# Altium integrated library Linear Technology Power Management LDO Linear Regulators.IntLib: 2339 symbols (part 97 of 131)
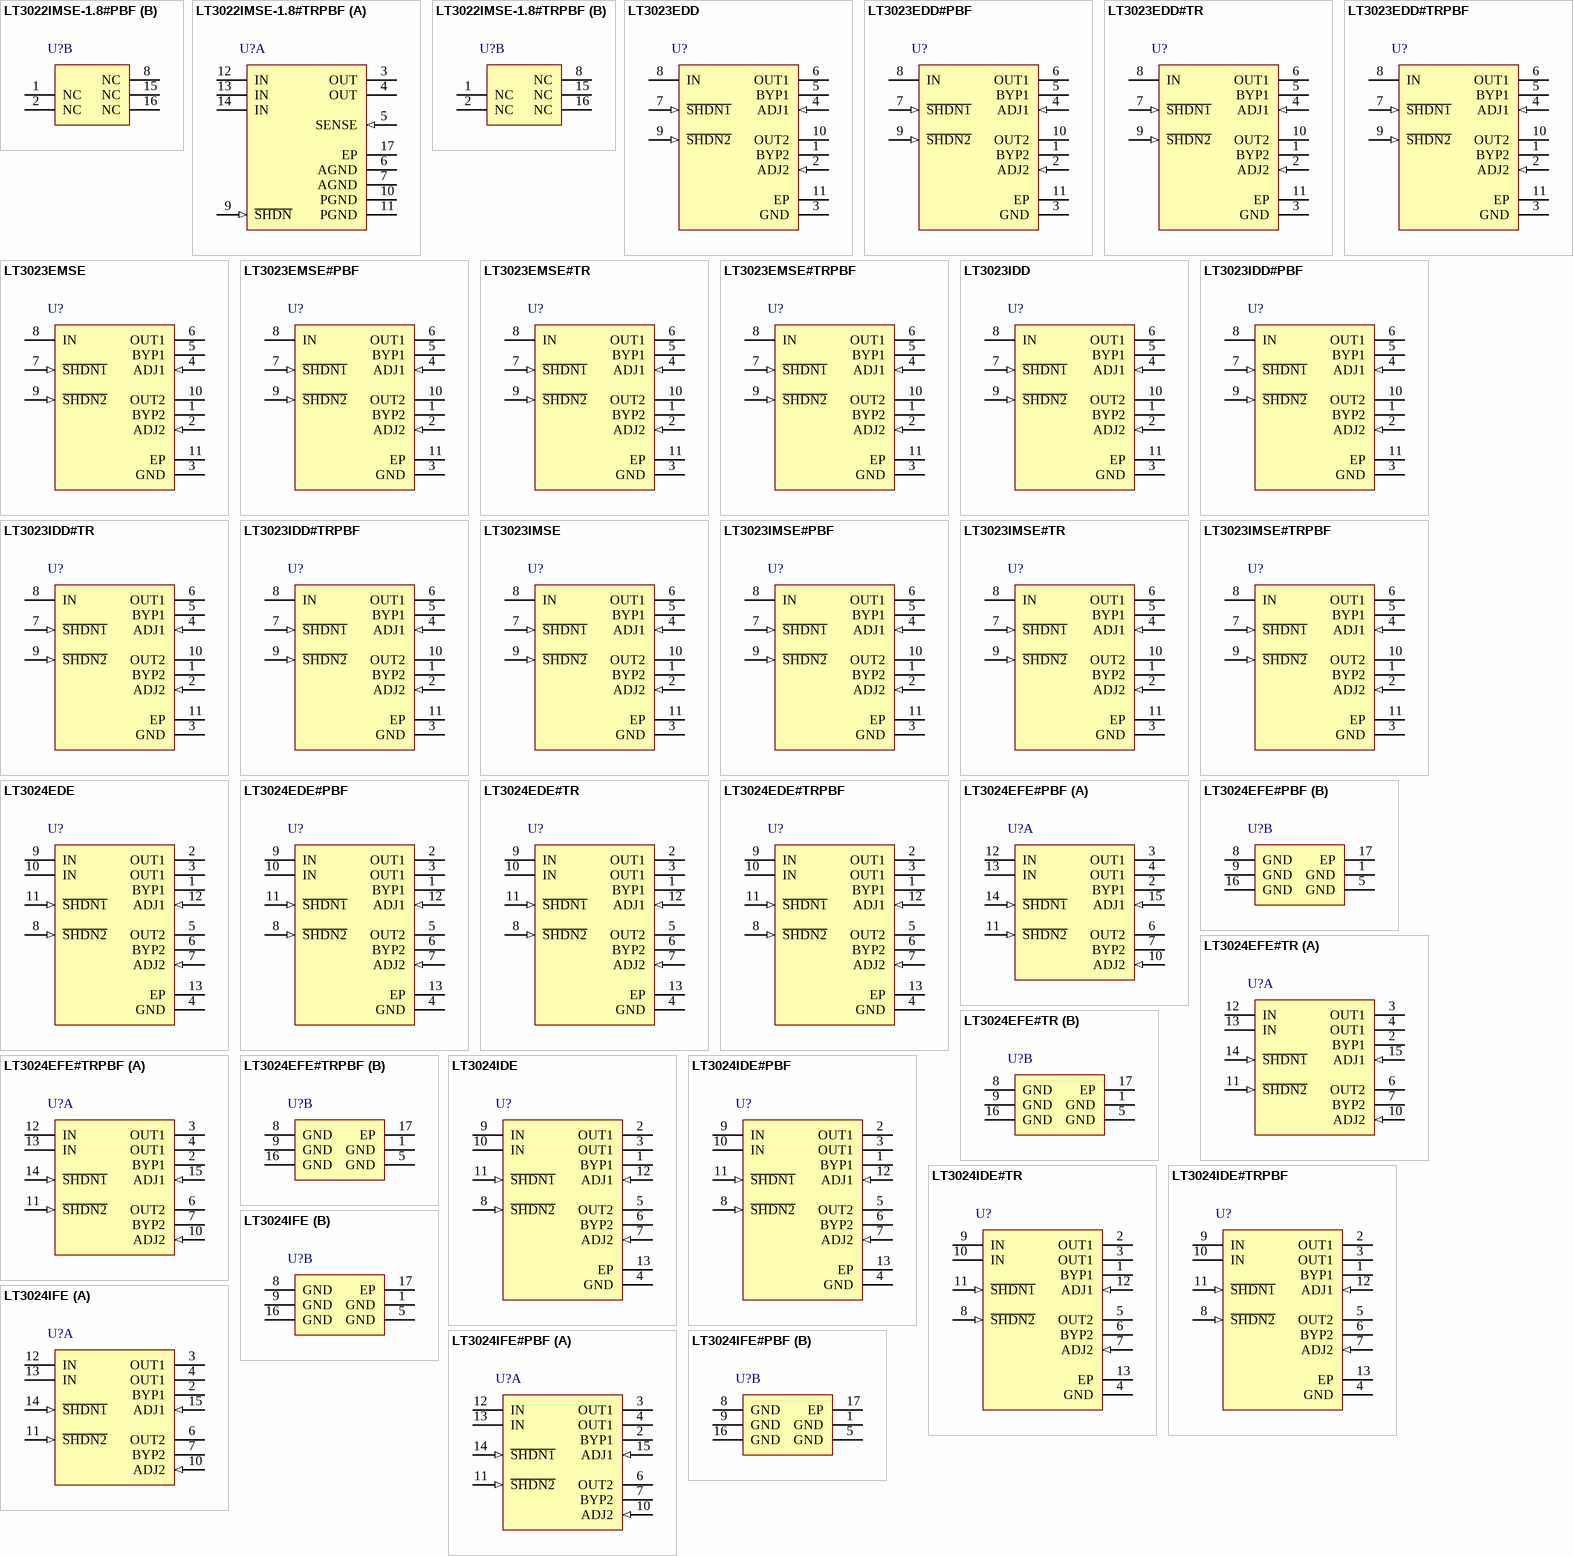
[diagram p165: symbols LT3022IMSE-1.8#PBF to LT3024IFE#PBF]

## LT3024IDE
designator U?
Dual 100 / 500 mA Low Dropout, Low Noise, Micropower Regulator, 1.8 to 20 V Vin, Adjustable Vout, 12-pin SON (DE-UE-12), -40 to 125 degC; Manufacturer: Linear Technology; PartNumber: LT3024IDE; Discrete Pass Element: no; Dropout Voltage(V): 0.3; Iout(mA): 500; Isupply(mA): 0.03; Noise(uV): 20; Number of Outputs: 2; Output Voltage: Adj; PSRR(dB): 65; Shutdown Current(uA): 0.01; Vin Min(V): 1.8; Vout Min(V): 1.22; DatasheetVersion: Rev. A; PackageVersion: Rev. D, 06/2010; PackageReference: DE-UE-12; PackageDescription: 12-Pin Plastic DFN, Body 4 x 3 mm, Pitch 0.5 mm; Supplier 1: Newark; Supplier Part Number 1: 79M3657; RoHS: FALSE; Vin Max(V): 20; Vout Max(V): 20; Mounting Technology: Surface Mount; Code_JEDEC: MO-229; ComponentLink1Description: Manufacturer URL; ComponentLink1URL: http://www.linear.com/; ComponentLink2Description: Datasheet; ComponentLink2URL: http://cds.linear.com/docs/en/datasheet/3024fa.pdf; ComponentLink3Description: Package Specification; ComponentLink3URL: http://cds.linear.com/docs/en/packaging/DFN_12_05-08-1695.pdf
footprint LT-DE-UE-12_V (SON, 12-Leads, Body 4x3mm, Pitch 0.5mm, Thermal Pad 3.3x1.7mm)
pins: 1 BYP1 "Bypass. The BYP1/ BYP2 pins are used to bypass the reference of the LT3024 regulator to achieve low noise performance from the regulator. The BYP1/BYP2 pins are clamped internally to +/-0.6V (one VBE) from ground. A small (See Datasheet)", 2 OUT1 (power) "Output. The outputs supply power to the loads. A minimum output capacitor of 1uF is required to prevent oscillations on Output 2; Output 1 requires a minimum of 3.3uF. Larger output capacitors will be required for (See Datasheet)", 3 OUT1 (power) "Output. The outputs supply power to the loads. A minimum output capacitor of 1uF is required to prevent oscillations on Output 2; Output 1 requires a minimum of 3.3uF. Larger output capacitors will be required for (See Datasheet)", 4 GND (power) "Ground. The Exposed Pad must be soldered to PCB ground for optimum thermal performance.", 5 OUT2 (power) "Output. The outputs supply power to the loads. A minimum output capacitor of 1uF is required to prevent oscillations on Output 2; Output 1 requires a minimum of 3.3uF. Larger output capacitors will be required for (See Datasheet)", 6 BYP2 "Bypass. The BYP1/ BYP2 pins are used to bypass the reference of the LT3024 regulator to achieve low noise performance from the regulator. The BYP1/BYP2 pins are clamped internally to +/-0.6V (one VBE) from ground. A small (See Datasheet)", 7 ADJ2 (in) "Adjust Pin. These are the input to the error amplifiers. These pins are internally clamped to +/-7V. They have a bias current of 30nA which flows into the pin (see curve of ADJ1/ADJ2 Pin Bias Current vs Temperature in the (See Datasheet)", 8 ~{SHDN2} (in) "Shutdown. The S\H\D\N\1\/S\H\D\N\2\ pins are used to put the corresponding output of the LT3024 regulator into a low power shutdown state. The output will be off when the pin is pulled low. The S\H\D\N\1\/S\H\D\N\2\ pins can (See Datasheet)", 9 IN (power) "Input. Power is supplied to the device through the IN pin. A bypass capacitor is required on this pin if the device is more than six inches away from the main input fi lter capacitor. In general, the output impedance of a (See Datasheet)", 10 IN (power) "Input. Power is supplied to the device through the IN pin. A bypass capacitor is required on this pin if the device is more than six inches away from the main input fi lter capacitor. In general, the output impedance of a (See Datasheet)", 11 ~{SHDN1} (in) "Shutdown. The S\H\D\N\1\/S\H\D\N\2\ pins are used to put the corresponding output of the LT3024 regulator into a low power shutdown state. The output will be off when the pin is pulled low. The S\H\D\N\1\/S\H\D\N\2\ pins can (See Datasheet)", 12 ADJ1 (in) "Adjust Pin. These are the input to the error amplifiers. These pins are internally clamped to +/-7V. They have a bias current of 30nA which flows into the pin (see curve of ADJ1/ADJ2 Pin Bias Current vs Temperature in the (See Datasheet)", 13 EP (power) "The Exposed Pad must be soldered to PCB ground for optimum thermal performance."

## LT3024IDE#PBF
designator U?
Dual 100 / 500 mA Low Dropout, Low Noise, Micropower Regulator, 1.8 to 20 V Vin, Adjustable Vout, 12-pin SON (DE-UE-12), -40 to 125 degC, Pb-Free; Manufacturer: Linear Technology; PartNumber: LT3024IDE#PBF; Discrete Pass Element: no; Dropout Voltage(V): 0.3; Iout(mA): 500; Isupply(mA): 0.03; Noise(uV): 20; Number of Outputs: 2; Output Voltage: Adj; PSRR(dB): 65; Shutdown Current(uA): 0.01; Vin Min(V): 1.8; Vout Min(V): 1.22; DatasheetVersion: Rev. A; PackageVersion: Rev. D, 06/2010; PackageReference: DE-UE-12; PackageDescription: 12-Pin Plastic DFN, Body 4 x 3 mm, Pitch 0.5 mm; Supplier 1: Digi-Key; Supplier Part Number 1: LT3024IDE#PBF-ND; Supplier 2: Farnell; Supplier Part Number 2: 2295257; Supplier 3: Newark; Supplier Part Number 3: 79M3658; RoHS: TRUE; Vin Max(V): 20; Vout Max(V): 20; Mounting Technology: Surface Mount; Code_JEDEC: MO-229; ComponentLink1Description: Manufacturer URL; ComponentLink1URL: http://www.linear.com/; ComponentLink2Description: Datasheet; ComponentLink2URL: http://cds.linear.com/docs/en/datasheet/3024fa.pdf; ComponentLink3Description: Package Specification; ComponentLink3URL: http://cds.linear.com/docs/en/packaging/DFN_12_05-08-1695.pdf
footprint LT-DE-UE-12_V (SON, 12-Leads, Body 4x3mm, Pitch 0.5mm, Thermal Pad 3.3x1.7mm)
pins: 1 BYP1 "Bypass. The BYP1/ BYP2 pins are used to bypass the reference of the LT3024 regulator to achieve low noise performance from the regulator. The BYP1/BYP2 pins are clamped internally to +/-0.6V (one VBE) from ground. A small (See Datasheet)", 2 OUT1 (power) "Output. The outputs supply power to the loads. A minimum output capacitor of 1uF is required to prevent oscillations on Output 2; Output 1 requires a minimum of 3.3uF. Larger output capacitors will be required for (See Datasheet)", 3 OUT1 (power) "Output. The outputs supply power to the loads. A minimum output capacitor of 1uF is required to prevent oscillations on Output 2; Output 1 requires a minimum of 3.3uF. Larger output capacitors will be required for (See Datasheet)", 4 GND (power) "Ground. The Exposed Pad must be soldered to PCB ground for optimum thermal performance.", 5 OUT2 (power) "Output. The outputs supply power to the loads. A minimum output capacitor of 1uF is required to prevent oscillations on Output 2; Output 1 requires a minimum of 3.3uF. Larger output capacitors will be required for (See Datasheet)", 6 BYP2 "Bypass. The BYP1/ BYP2 pins are used to bypass the reference of the LT3024 regulator to achieve low noise performance from the regulator. The BYP1/BYP2 pins are clamped internally to +/-0.6V (one VBE) from ground. A small (See Datasheet)", 7 ADJ2 (in) "Adjust Pin. These are the input to the error amplifiers. These pins are internally clamped to +/-7V. They have a bias current of 30nA which flows into the pin (see curve of ADJ1/ADJ2 Pin Bias Current vs Temperature in the (See Datasheet)", 8 ~{SHDN2} (in) "Shutdown. The S\H\D\N\1\/S\H\D\N\2\ pins are used to put the corresponding output of the LT3024 regulator into a low power shutdown state. The output will be off when the pin is pulled low. The S\H\D\N\1\/S\H\D\N\2\ pins can (See Datasheet)", 9 IN (power) "Input. Power is supplied to the device through the IN pin. A bypass capacitor is required on this pin if the device is more than six inches away from the main input fi lter capacitor. In general, the output impedance of a (See Datasheet)", 10 IN (power) "Input. Power is supplied to the device through the IN pin. A bypass capacitor is required on this pin if the device is more than six inches away from the main input fi lter capacitor. In general, the output impedance of a (See Datasheet)", 11 ~{SHDN1} (in) "Shutdown. The S\H\D\N\1\/S\H\D\N\2\ pins are used to put the corresponding output of the LT3024 regulator into a low power shutdown state. The output will be off when the pin is pulled low. The S\H\D\N\1\/S\H\D\N\2\ pins can (See Datasheet)", 12 ADJ1 (in) "Adjust Pin. These are the input to the error amplifiers. These pins are internally clamped to +/-7V. They have a bias current of 30nA which flows into the pin (see curve of ADJ1/ADJ2 Pin Bias Current vs Temperature in the (See Datasheet)", 13 EP (power) "The Exposed Pad must be soldered to PCB ground for optimum thermal performance."

## LT3024IDE#TR
designator U?
Dual 100 / 500 mA Low Dropout, Low Noise, Micropower Regulator, 1.8 to 20 V Vin, Adjustable Vout, 12-pin SON (DE-UE-12), -40 to 125 degC, Tape and Reel; Manufacturer: Linear Technology; PartNumber: LT3024IDE#TR; Discrete Pass Element: no; Dropout Voltage(V): 0.3; Iout(mA): 500; Isupply(mA): 0.03; Noise(uV): 20; Number of Outputs: 2; Output Voltage: Adj; PSRR(dB): 65; Shutdown Current(uA): 0.01; Vin Min(V): 1.8; Vout Min(V): 1.22; DatasheetVersion: Rev. A; PackageVersion: Rev. D, 06/2010; PackageReference: DE-UE-12; PackageDescription: 12-Pin Plastic DFN, Body 4 x 3 mm, Pitch 0.5 mm; Packing: Tape and Reel; RoHS: FALSE; Vin Max(V): 20; Vout Max(V): 20; Mounting Technology: Surface Mount; Code_JEDEC: MO-229; ComponentLink1Description: Manufacturer URL; ComponentLink1URL: http://www.linear.com/; ComponentLink2Description: Datasheet; ComponentLink2URL: http://cds.linear.com/docs/en/datasheet/3024fa.pdf; ComponentLink3Description: Package Specification; ComponentLink3URL: http://cds.linear.com/docs/en/packaging/DFN_12_05-08-1695.pdf
footprint LT-DE-UE-12_V (SON, 12-Leads, Body 4x3mm, Pitch 0.5mm, Thermal Pad 3.3x1.7mm)
pins: 1 BYP1 "Bypass. The BYP1/ BYP2 pins are used to bypass the reference of the LT3024 regulator to achieve low noise performance from the regulator. The BYP1/BYP2 pins are clamped internally to +/-0.6V (one VBE) from ground. A small (See Datasheet)", 2 OUT1 (power) "Output. The outputs supply power to the loads. A minimum output capacitor of 1uF is required to prevent oscillations on Output 2; Output 1 requires a minimum of 3.3uF. Larger output capacitors will be required for (See Datasheet)", 3 OUT1 (power) "Output. The outputs supply power to the loads. A minimum output capacitor of 1uF is required to prevent oscillations on Output 2; Output 1 requires a minimum of 3.3uF. Larger output capacitors will be required for (See Datasheet)", 4 GND (power) "Ground. The Exposed Pad must be soldered to PCB ground for optimum thermal performance.", 5 OUT2 (power) "Output. The outputs supply power to the loads. A minimum output capacitor of 1uF is required to prevent oscillations on Output 2; Output 1 requires a minimum of 3.3uF. Larger output capacitors will be required for (See Datasheet)", 6 BYP2 "Bypass. The BYP1/ BYP2 pins are used to bypass the reference of the LT3024 regulator to achieve low noise performance from the regulator. The BYP1/BYP2 pins are clamped internally to +/-0.6V (one VBE) from ground. A small (See Datasheet)", 7 ADJ2 (in) "Adjust Pin. These are the input to the error amplifiers. These pins are internally clamped to +/-7V. They have a bias current of 30nA which flows into the pin (see curve of ADJ1/ADJ2 Pin Bias Current vs Temperature in the (See Datasheet)", 8 ~{SHDN2} (in) "Shutdown. The S\H\D\N\1\/S\H\D\N\2\ pins are used to put the corresponding output of the LT3024 regulator into a low power shutdown state. The output will be off when the pin is pulled low. The S\H\D\N\1\/S\H\D\N\2\ pins can (See Datasheet)", 9 IN (power) "Input. Power is supplied to the device through the IN pin. A bypass capacitor is required on this pin if the device is more than six inches away from the main input fi lter capacitor. In general, the output impedance of a (See Datasheet)", 10 IN (power) "Input. Power is supplied to the device through the IN pin. A bypass capacitor is required on this pin if the device is more than six inches away from the main input fi lter capacitor. In general, the output impedance of a (See Datasheet)", 11 ~{SHDN1} (in) "Shutdown. The S\H\D\N\1\/S\H\D\N\2\ pins are used to put the corresponding output of the LT3024 regulator into a low power shutdown state. The output will be off when the pin is pulled low. The S\H\D\N\1\/S\H\D\N\2\ pins can (See Datasheet)", 12 ADJ1 (in) "Adjust Pin. These are the input to the error amplifiers. These pins are internally clamped to +/-7V. They have a bias current of 30nA which flows into the pin (see curve of ADJ1/ADJ2 Pin Bias Current vs Temperature in the (See Datasheet)", 13 EP (power) "The Exposed Pad must be soldered to PCB ground for optimum thermal performance."

## LT3024IDE#TRPBF
designator U?
Dual 100 / 500 mA Low Dropout, Low Noise, Micropower Regulator, 1.8 to 20 V Vin, Adjustable Vout, 12-pin SON (DE-UE-12), -40 to 125 degC, Pb-Free, Tape and Reel; Manufacturer: Linear Technology; PartNumber: LT3024IDE#TRPBF; Discrete Pass Element: no; Dropout Voltage(V): 0.3; Iout(mA): 500; Isupply(mA): 0.03; Noise(uV): 20; Number of Outputs: 2; Output Voltage: Adj; PSRR(dB): 65; Shutdown Current(uA): 0.01; Vin Min(V): 1.8; Vout Min(V): 1.22; DatasheetVersion: Rev. A; PackageVersion: Rev. D, 06/2010; PackageReference: DE-UE-12; PackageDescription: 12-Pin Plastic DFN, Body 4 x 3 mm, Pitch 0.5 mm; Supplier 1: Digi-Key; Supplier Part Number 1: LT3024IDE#TRPBF-ND; Supplier 2: Newark; Supplier Part Number 2: 79M3660; Packing: Tape and Reel; RoHS: TRUE; Vin Max(V): 20; Vout Max(V): 20; Mounting Technology: Surface Mount; Code_JEDEC: MO-229; ComponentLink1Description: Manufacturer URL; ComponentLink1URL: http://www.linear.com/; ComponentLink2Description: Datasheet; ComponentLink2URL: http://cds.linear.com/docs/en/datasheet/3024fa.pdf; ComponentLink3Description: Package Specification; ComponentLink3URL: http://cds.linear.com/docs/en/packaging/DFN_12_05-08-1695.pdf
footprint LT-DE-UE-12_V (SON, 12-Leads, Body 4x3mm, Pitch 0.5mm, Thermal Pad 3.3x1.7mm)
pins: 1 BYP1 "Bypass. The BYP1/ BYP2 pins are used to bypass the reference of the LT3024 regulator to achieve low noise performance from the regulator. The BYP1/BYP2 pins are clamped internally to +/-0.6V (one VBE) from ground. A small (See Datasheet)", 2 OUT1 (power) "Output. The outputs supply power to the loads. A minimum output capacitor of 1uF is required to prevent oscillations on Output 2; Output 1 requires a minimum of 3.3uF. Larger output capacitors will be required for (See Datasheet)", 3 OUT1 (power) "Output. The outputs supply power to the loads. A minimum output capacitor of 1uF is required to prevent oscillations on Output 2; Output 1 requires a minimum of 3.3uF. Larger output capacitors will be required for (See Datasheet)", 4 GND (power) "Ground. The Exposed Pad must be soldered to PCB ground for optimum thermal performance.", 5 OUT2 (power) "Output. The outputs supply power to the loads. A minimum output capacitor of 1uF is required to prevent oscillations on Output 2; Output 1 requires a minimum of 3.3uF. Larger output capacitors will be required for (See Datasheet)", 6 BYP2 "Bypass. The BYP1/ BYP2 pins are used to bypass the reference of the LT3024 regulator to achieve low noise performance from the regulator. The BYP1/BYP2 pins are clamped internally to +/-0.6V (one VBE) from ground. A small (See Datasheet)", 7 ADJ2 (in) "Adjust Pin. These are the input to the error amplifiers. These pins are internally clamped to +/-7V. They have a bias current of 30nA which flows into the pin (see curve of ADJ1/ADJ2 Pin Bias Current vs Temperature in the (See Datasheet)", 8 ~{SHDN2} (in) "Shutdown. The S\H\D\N\1\/S\H\D\N\2\ pins are used to put the corresponding output of the LT3024 regulator into a low power shutdown state. The output will be off when the pin is pulled low. The S\H\D\N\1\/S\H\D\N\2\ pins can (See Datasheet)", 9 IN (power) "Input. Power is supplied to the device through the IN pin. A bypass capacitor is required on this pin if the device is more than six inches away from the main input fi lter capacitor. In general, the output impedance of a (See Datasheet)", 10 IN (power) "Input. Power is supplied to the device through the IN pin. A bypass capacitor is required on this pin if the device is more than six inches away from the main input fi lter capacitor. In general, the output impedance of a (See Datasheet)", 11 ~{SHDN1} (in) "Shutdown. The S\H\D\N\1\/S\H\D\N\2\ pins are used to put the corresponding output of the LT3024 regulator into a low power shutdown state. The output will be off when the pin is pulled low. The S\H\D\N\1\/S\H\D\N\2\ pins can (See Datasheet)", 12 ADJ1 (in) "Adjust Pin. These are the input to the error amplifiers. These pins are internally clamped to +/-7V. They have a bias current of 30nA which flows into the pin (see curve of ADJ1/ADJ2 Pin Bias Current vs Temperature in the (See Datasheet)", 13 EP (power) "The Exposed Pad must be soldered to PCB ground for optimum thermal performance."

## LT3024IFE
designator U?
Dual 100 / 500 mA Low Dropout, Low Noise, Micropower Regulator, 1.8 to 20 V Vin, Adjustable Vout, 16-pin SOP (FE-16-EPV-BB), -40 to 125 degC; Manufacturer: Linear Technology; PartNumber: LT3024IFE; Discrete Pass Element: no; Dropout Voltage(V): 0.3; Iout(mA): 500; Isupply(mA): 0.03; Noise(uV): 20; Number of Outputs: 2; Output Voltage: Adj; PSRR(dB): 65; Shutdown Current(uA): 0.01; Vin Min(V): 1.8; Vout Min(V): 1.22; DatasheetVersion: Rev. A; PackageVersion: Rev. J, 11/2012; PackageReference: FE-16; PackageDescription: 16-Pin Plastic TSSOP, Body 5 x 4.4 mm, Pitch 0.65 mm; RoHS: FALSE; Vin Max(V): 20; Vout Max(V): 20; Mounting Technology: Surface Mount; ComponentLink1Description: Manufacturer URL; ComponentLink1URL: http://www.linear.com/; ComponentLink2Description: Datasheet; ComponentLink2URL: http://cds.linear.com/docs/en/datasheet/3024fa.pdf; ComponentLink3Description: Package Specification; ComponentLink3URL: http://cds.linear.com/docs/en/packaging/05081663__J_FE16(BB).pdf
footprint LT-FE-16-EPV-BB_N (SOP, 16-Leads, Body 5.1x4.5mm, Pitch 0.65mm, Thermal Pad 3.58x2.94mm, IPC Medium Density)
footprint LT-FE-16-EPV-BB_L (SOP, 16-Leads, Body 5.1x4.5mm, Pitch 0.65mm, Thermal Pad 3.58x2.94mm, IPC High Density)
footprint LT-FE-16-EPV-BB_M (SOP, 16-Leads, Body 5.1x4.5mm, Pitch 0.65mm, Thermal Pad 3.58x2.94mm, IPC Low Density)
part A pins: 2 BYP1 "Bypass. The BYP1/ BYP2 pins are used to bypass the reference of the LT3024 regulator to achieve low noise performance from the regulator. The BYP1/BYP2 pins are clamped internally to +/-0.6V (one VBE) from ground. A small (See Datasheet)", 3 OUT1 (power) "Output. The outputs supply power to the loads. A minimum output capacitor of 1uF is required to prevent oscillations on Output 2; Output 1 requires a minimum of 3.3uF. Larger output capacitors will be required for (See Datasheet)", 4 OUT1 (power) "Output. The outputs supply power to the loads. A minimum output capacitor of 1uF is required to prevent oscillations on Output 2; Output 1 requires a minimum of 3.3uF. Larger output capacitors will be required for (See Datasheet)", 6 OUT2 (power) "Output. The outputs supply power to the loads. A minimum output capacitor of 1uF is required to prevent oscillations on Output 2; Output 1 requires a minimum of 3.3uF. Larger output capacitors will be required for (See Datasheet)", 7 BYP2 "Bypass. The BYP1/ BYP2 pins are used to bypass the reference of the LT3024 regulator to achieve low noise performance from the regulator. The BYP1/BYP2 pins are clamped internally to +/-0.6V (one VBE) from ground. A small (See Datasheet)", 10 ADJ2 (in) "Adjust Pin. These are the input to the error amplifi ers. These pins are internally clamped to +/-7V. They have a bias current of 30nA which fl ows into the pin (see curve of ADJ1/ADJ2 Pin Bias Current vs Temperature in the (See Datasheet)", 11 ~{SHDN2} (in) "Shutdown. The S\H\D\N\1\/S\H\D\N\2\ pins are used to put the corresponding output of the LT3024 regulator into a low power shutdown state. The output will be off when the pin is pulled low. The S\H\D\N\1\/S\H\D\N\2\ pins can (See Datasheet)", 12 IN (power) "Input. Power is supplied to the device through the IN pin. A bypass capacitor is required on this pin if the device is more than six inches away from the main input fi lter capacitor. In general, the output impedance of a (See Datasheet)", 13 IN (power) "Input. Power is supplied to the device through the IN pin. A bypass capacitor is required on this pin if the device is more than six inches away from the main input fi lter capacitor. In general, the output impedance of a (See Datasheet)", 14 ~{SHDN1} (in) "Shutdown. The S\H\D\N\1\/S\H\D\N\2\ pins are used to put the corresponding output of the LT3024 regulator into a low power shutdown state. The output will be off when the pin is pulled low. The S\H\D\N\1\/S\H\D\N\2\ pins can (See Datasheet)", 15 ADJ1 (in) "Adjust Pin. These are the input to the error amplifi ers. These pins are internally clamped to +/-7V. They have a bias current of 30nA which fl ows into the pin (see curve of ADJ1/ADJ2 Pin Bias Current vs Temperature in the (See Datasheet)"
part B pins: 1 GND (power) "Ground. The Exposed Pad must be soldered to PCB ground for optimum thermal performance.", 5 GND (power) "Ground. The Exposed Pad must be soldered to PCB ground for optimum thermal performance.", 8 GND (power) "Ground. The Exposed Pad must be soldered to PCB ground for optimum thermal performance.", 9 GND (power) "Ground. The Exposed Pad must be soldered to PCB ground for optimum thermal performance.", 16 GND (power) "Ground. The Exposed Pad must be soldered to PCB ground for optimum thermal performance.", 17 EP (power) "Ground. The Exposed Pad must be soldered to PCB ground for optimum thermal performance."

## LT3024IFE#PBF
designator U?
Dual 100 / 500 mA Low Dropout, Low Noise, Micropower Regulator, 1.8 to 20 V Vin, Adjustable Vout, 16-pin SOP (FE-16-EPV-BB), -40 to 125 degC, Pb-Free; Manufacturer: Linear Technology; PartNumber: LT3024IFE#PBF; Discrete Pass Element: no; Dropout Voltage(V): 0.3; Iout(mA): 500; Isupply(mA): 0.03; Noise(uV): 20; Number of Outputs: 2; Output Voltage: Adj; PSRR(dB): 65; Shutdown Current(uA): 0.01; Vin Min(V): 1.8; Vout Min(V): 1.22; DatasheetVersion: Rev. A; PackageVersion: Rev. J, 11/2012; PackageReference: FE-16; PackageDescription: 16-Pin Plastic TSSOP, Body 5 x 4.4 mm, Pitch 0.65 mm; Supplier 1: Digi-Key; Supplier Part Number 1: LT3024IFE#PBF-ND; RoHS: TRUE; Vin Max(V): 20; Vout Max(V): 20; Mounting Technology: Surface Mount; ComponentLink1Description: Manufacturer URL; ComponentLink1URL: http://www.linear.com/; ComponentLink2Description: Datasheet; ComponentLink2URL: http://cds.linear.com/docs/en/datasheet/3024fa.pdf; ComponentLink3Description: Package Specification; ComponentLink3URL: http://cds.linear.com/docs/en/packaging/05081663__J_FE16(BB).pdf
footprint LT-FE-16-EPV-BB_N (SOP, 16-Leads, Body 5.1x4.5mm, Pitch 0.65mm, Thermal Pad 3.58x2.94mm, IPC Medium Density)
footprint LT-FE-16-EPV-BB_L (SOP, 16-Leads, Body 5.1x4.5mm, Pitch 0.65mm, Thermal Pad 3.58x2.94mm, IPC High Density)
footprint LT-FE-16-EPV-BB_M (SOP, 16-Leads, Body 5.1x4.5mm, Pitch 0.65mm, Thermal Pad 3.58x2.94mm, IPC Low Density)
part A pins: 2 BYP1 "Bypass. The BYP1/ BYP2 pins are used to bypass the reference of the LT3024 regulator to achieve low noise performance from the regulator. The BYP1/BYP2 pins are clamped internally to +/-0.6V (one VBE) from ground. A small (See Datasheet)", 3 OUT1 (power) "Output. The outputs supply power to the loads. A minimum output capacitor of 1uF is required to prevent oscillations on Output 2; Output 1 requires a minimum of 3.3uF. Larger output capacitors will be required for (See Datasheet)", 4 OUT1 (power) "Output. The outputs supply power to the loads. A minimum output capacitor of 1uF is required to prevent oscillations on Output 2; Output 1 requires a minimum of 3.3uF. Larger output capacitors will be required for (See Datasheet)", 6 OUT2 (power) "Output. The outputs supply power to the loads. A minimum output capacitor of 1uF is required to prevent oscillations on Output 2; Output 1 requires a minimum of 3.3uF. Larger output capacitors will be required for (See Datasheet)", 7 BYP2 "Bypass. The BYP1/ BYP2 pins are used to bypass the reference of the LT3024 regulator to achieve low noise performance from the regulator. The BYP1/BYP2 pins are clamped internally to +/-0.6V (one VBE) from ground. A small (See Datasheet)", 10 ADJ2 (in) "Adjust Pin. These are the input to the error amplifi ers. These pins are internally clamped to +/-7V. They have a bias current of 30nA which fl ows into the pin (see curve of ADJ1/ADJ2 Pin Bias Current vs Temperature in the (See Datasheet)", 11 ~{SHDN2} (in) "Shutdown. The S\H\D\N\1\/S\H\D\N\2\ pins are used to put the corresponding output of the LT3024 regulator into a low power shutdown state. The output will be off when the pin is pulled low. The S\H\D\N\1\/S\H\D\N\2\ pins can (See Datasheet)", 12 IN (power) "Input. Power is supplied to the device through the IN pin. A bypass capacitor is required on this pin if the device is more than six inches away from the main input fi lter capacitor. In general, the output impedance of a (See Datasheet)", 13 IN (power) "Input. Power is supplied to the device through the IN pin. A bypass capacitor is required on this pin if the device is more than six inches away from the main input fi lter capacitor. In general, the output impedance of a (See Datasheet)", 14 ~{SHDN1} (in) "Shutdown. The S\H\D\N\1\/S\H\D\N\2\ pins are used to put the corresponding output of the LT3024 regulator into a low power shutdown state. The output will be off when the pin is pulled low. The S\H\D\N\1\/S\H\D\N\2\ pins can (See Datasheet)", 15 ADJ1 (in) "Adjust Pin. These are the input to the error amplifi ers. These pins are internally clamped to +/-7V. They have a bias current of 30nA which fl ows into the pin (see curve of ADJ1/ADJ2 Pin Bias Current vs Temperature in the (See Datasheet)"
part B pins: 1 GND (power) "Ground. The Exposed Pad must be soldered to PCB ground for optimum thermal performance.", 5 GND (power) "Ground. The Exposed Pad must be soldered to PCB ground for optimum thermal performance.", 8 GND (power) "Ground. The Exposed Pad must be soldered to PCB ground for optimum thermal performance.", 9 GND (power) "Ground. The Exposed Pad must be soldered to PCB ground for optimum thermal performance.", 16 GND (power) "Ground. The Exposed Pad must be soldered to PCB ground for optimum thermal performance.", 17 EP (power) "Ground. The Exposed Pad must be soldered to PCB ground for optimum thermal performance."

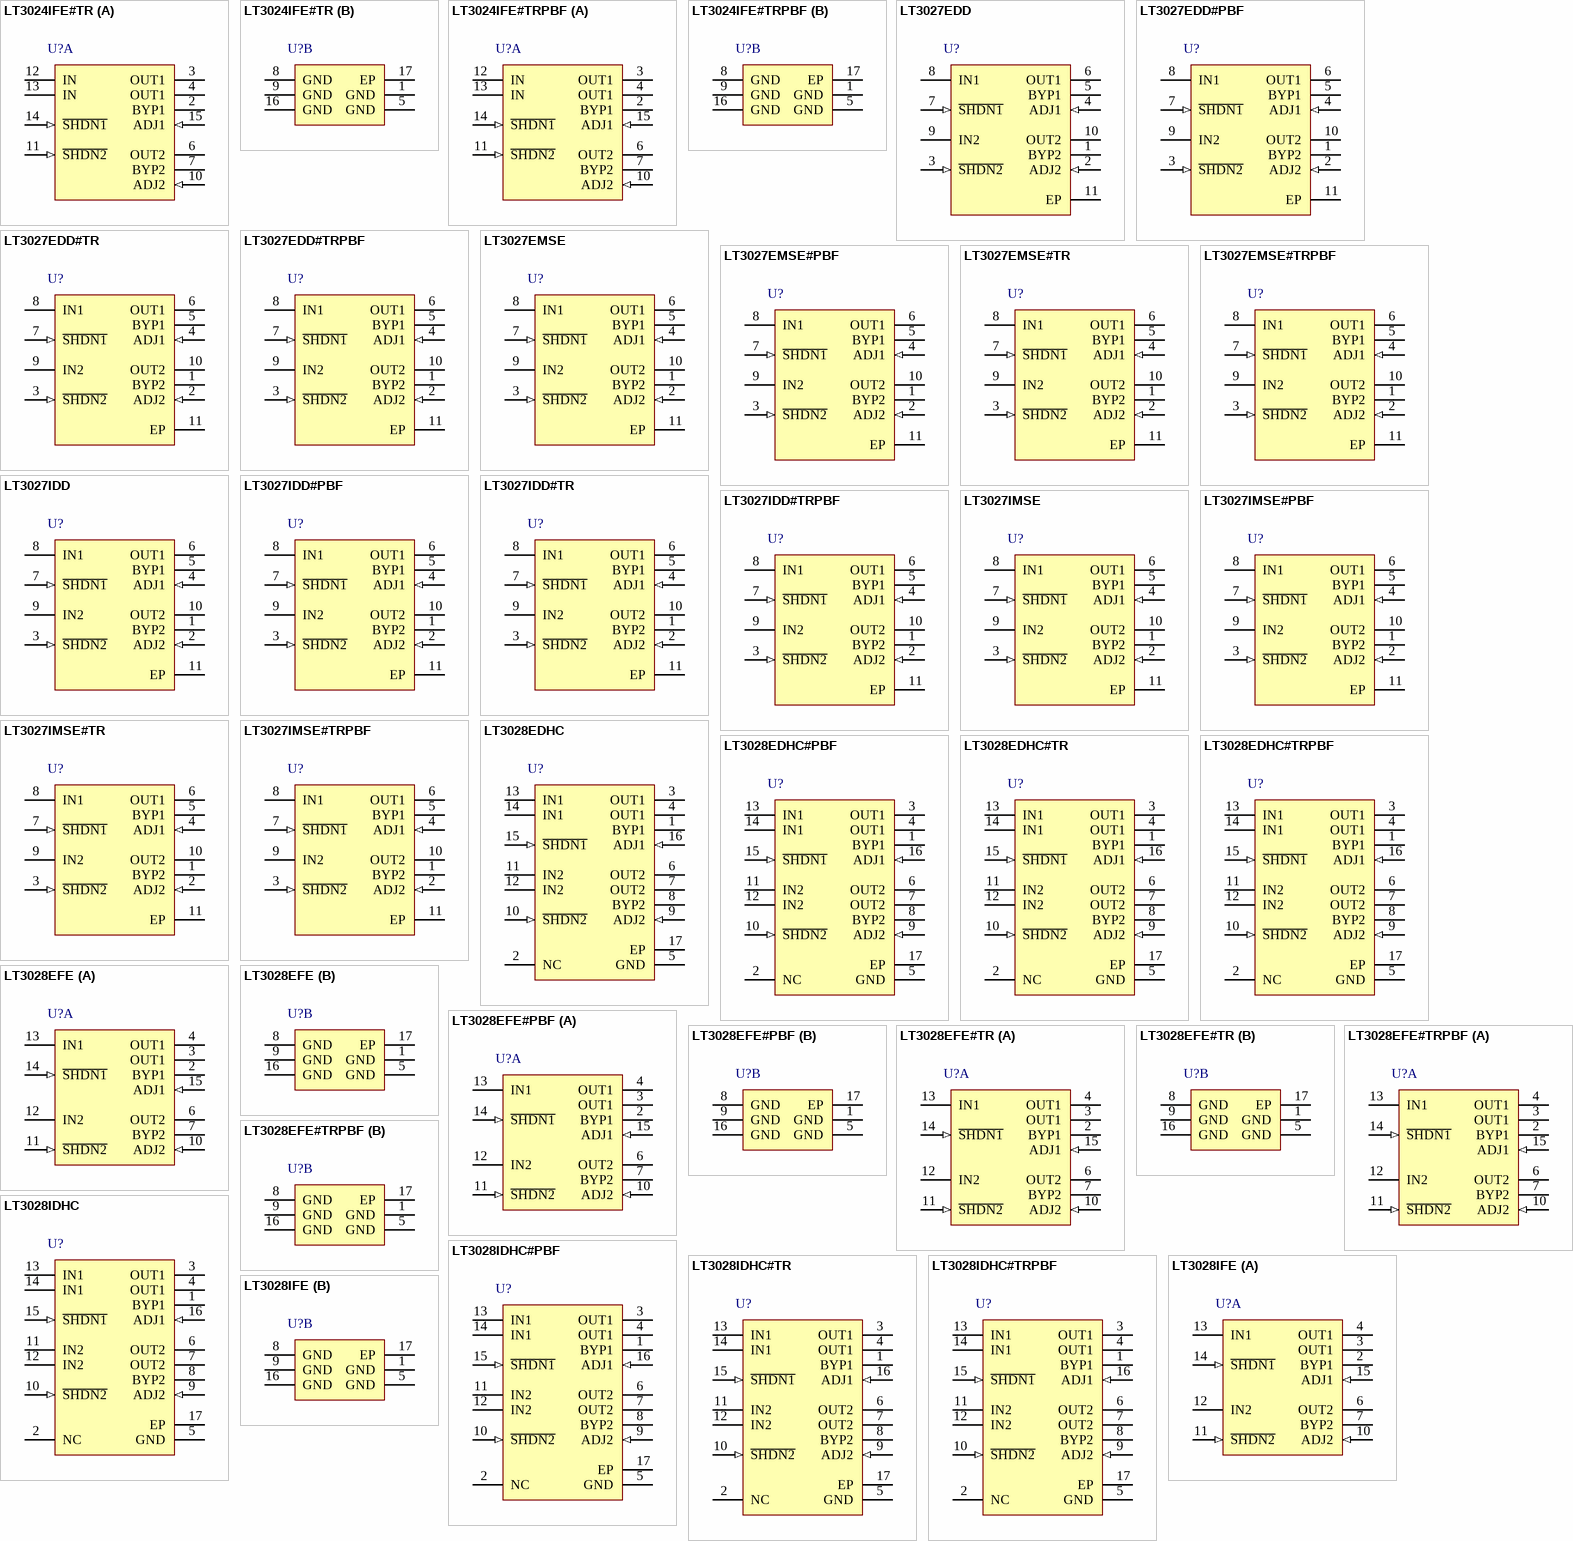
[diagram p56: symbols LT3024IFE#TR to LT3028IFE]

## LT3024IFE#TR
designator U?
Dual 100 / 500 mA Low Dropout, Low Noise, Micropower Regulator, 1.8 to 20 V Vin, Adjustable Vout, 16-pin SOP (FE-16-EPV-BB), -40 to 125 degC, Tape and Reel; Manufacturer: Linear Technology; PartNumber: LT3024IFE#TR; Discrete Pass Element: no; Dropout Voltage(V): 0.3; Iout(mA): 500; Isupply(mA): 0.03; Noise(uV): 20; Number of Outputs: 2; Output Voltage: Adj; PSRR(dB): 65; Shutdown Current(uA): 0.01; Vin Min(V): 1.8; Vout Min(V): 1.22; DatasheetVersion: Rev. A; PackageVersion: Rev. J, 11/2012; PackageReference: FE-16; PackageDescription: 16-Pin Plastic TSSOP, Body 5 x 4.4 mm, Pitch 0.65 mm; Packing: Tape and Reel; RoHS: FALSE; Vin Max(V): 20; Vout Max(V): 20; Mounting Technology: Surface Mount; ComponentLink1Description: Manufacturer URL; ComponentLink1URL: http://www.linear.com/; ComponentLink2Description: Datasheet; ComponentLink2URL: http://cds.linear.com/docs/en/datasheet/3024fa.pdf; ComponentLink3Description: Package Specification; ComponentLink3URL: http://cds.linear.com/docs/en/packaging/05081663__J_FE16(BB).pdf
footprint LT-FE-16-EPV-BB_N (SOP, 16-Leads, Body 5.1x4.5mm, Pitch 0.65mm, Thermal Pad 3.58x2.94mm, IPC Medium Density)
footprint LT-FE-16-EPV-BB_L (SOP, 16-Leads, Body 5.1x4.5mm, Pitch 0.65mm, Thermal Pad 3.58x2.94mm, IPC High Density)
footprint LT-FE-16-EPV-BB_M (SOP, 16-Leads, Body 5.1x4.5mm, Pitch 0.65mm, Thermal Pad 3.58x2.94mm, IPC Low Density)
part A pins: 2 BYP1 "Bypass. The BYP1/ BYP2 pins are used to bypass the reference of the LT3024 regulator to achieve low noise performance from the regulator. The BYP1/BYP2 pins are clamped internally to +/-0.6V (one VBE) from ground. A small (See Datasheet)", 3 OUT1 (power) "Output. The outputs supply power to the loads. A minimum output capacitor of 1uF is required to prevent oscillations on Output 2; Output 1 requires a minimum of 3.3uF. Larger output capacitors will be required for (See Datasheet)", 4 OUT1 (power) "Output. The outputs supply power to the loads. A minimum output capacitor of 1uF is required to prevent oscillations on Output 2; Output 1 requires a minimum of 3.3uF. Larger output capacitors will be required for (See Datasheet)", 6 OUT2 (power) "Output. The outputs supply power to the loads. A minimum output capacitor of 1uF is required to prevent oscillations on Output 2; Output 1 requires a minimum of 3.3uF. Larger output capacitors will be required for (See Datasheet)", 7 BYP2 "Bypass. The BYP1/ BYP2 pins are used to bypass the reference of the LT3024 regulator to achieve low noise performance from the regulator. The BYP1/BYP2 pins are clamped internally to +/-0.6V (one VBE) from ground. A small (See Datasheet)", 10 ADJ2 (in) "Adjust Pin. These are the input to the error amplifi ers. These pins are internally clamped to +/-7V. They have a bias current of 30nA which fl ows into the pin (see curve of ADJ1/ADJ2 Pin Bias Current vs Temperature in the (See Datasheet)", 11 ~{SHDN2} (in) "Shutdown. The S\H\D\N\1\/S\H\D\N\2\ pins are used to put the corresponding output of the LT3024 regulator into a low power shutdown state. The output will be off when the pin is pulled low. The S\H\D\N\1\/S\H\D\N\2\ pins can (See Datasheet)", 12 IN (power) "Input. Power is supplied to the device through the IN pin. A bypass capacitor is required on this pin if the device is more than six inches away from the main input fi lter capacitor. In general, the output impedance of a (See Datasheet)", 13 IN (power) "Input. Power is supplied to the device through the IN pin. A bypass capacitor is required on this pin if the device is more than six inches away from the main input fi lter capacitor. In general, the output impedance of a (See Datasheet)", 14 ~{SHDN1} (in) "Shutdown. The S\H\D\N\1\/S\H\D\N\2\ pins are used to put the corresponding output of the LT3024 regulator into a low power shutdown state. The output will be off when the pin is pulled low. The S\H\D\N\1\/S\H\D\N\2\ pins can (See Datasheet)", 15 ADJ1 (in) "Adjust Pin. These are the input to the error amplifi ers. These pins are internally clamped to +/-7V. They have a bias current of 30nA which fl ows into the pin (see curve of ADJ1/ADJ2 Pin Bias Current vs Temperature in the (See Datasheet)"
part B pins: 1 GND (power) "Ground. The Exposed Pad must be soldered to PCB ground for optimum thermal performance.", 5 GND (power) "Ground. The Exposed Pad must be soldered to PCB ground for optimum thermal performance.", 8 GND (power) "Ground. The Exposed Pad must be soldered to PCB ground for optimum thermal performance.", 9 GND (power) "Ground. The Exposed Pad must be soldered to PCB ground for optimum thermal performance.", 16 GND (power) "Ground. The Exposed Pad must be soldered to PCB ground for optimum thermal performance.", 17 EP (power) "Ground. The Exposed Pad must be soldered to PCB ground for optimum thermal performance."

## LT3024IFE#TRPBF
designator U?
Dual 100 / 500 mA Low Dropout, Low Noise, Micropower Regulator, 1.8 to 20 V Vin, Adjustable Vout, 16-pin SOP (FE-16-EPV-BB), -40 to 125 degC, Pb-Free, Tape and Reel; Manufacturer: Linear Technology; PartNumber: LT3024IFE#TRPBF; Discrete Pass Element: no; Dropout Voltage(V): 0.3; Iout(mA): 500; Isupply(mA): 0.03; Noise(uV): 20; Number of Outputs: 2; Output Voltage: Adj; PSRR(dB): 65; Shutdown Current(uA): 0.01; Vin Min(V): 1.8; Vout Min(V): 1.22; DatasheetVersion: Rev. A; PackageVersion: Rev. J, 11/2012; PackageReference: FE-16; PackageDescription: 16-Pin Plastic TSSOP, Body 5 x 4.4 mm, Pitch 0.65 mm; Supplier 1: Digi-Key; Supplier Part Number 1: LT3024IFE#TRPBF-ND; Packing: Tape and Reel; RoHS: TRUE; Vin Max(V): 20; Vout Max(V): 20; Mounting Technology: Surface Mount; ComponentLink1Description: Manufacturer URL; ComponentLink1URL: http://www.linear.com/; ComponentLink2Description: Datasheet; ComponentLink2URL: http://cds.linear.com/docs/en/datasheet/3024fa.pdf; ComponentLink3Description: Package Specification; ComponentLink3URL: http://cds.linear.com/docs/en/packaging/05081663__J_FE16(BB).pdf
footprint LT-FE-16-EPV-BB_N (SOP, 16-Leads, Body 5.1x4.5mm, Pitch 0.65mm, Thermal Pad 3.58x2.94mm, IPC Medium Density)
footprint LT-FE-16-EPV-BB_L (SOP, 16-Leads, Body 5.1x4.5mm, Pitch 0.65mm, Thermal Pad 3.58x2.94mm, IPC High Density)
footprint LT-FE-16-EPV-BB_M (SOP, 16-Leads, Body 5.1x4.5mm, Pitch 0.65mm, Thermal Pad 3.58x2.94mm, IPC Low Density)
part A pins: 2 BYP1 "Bypass. The BYP1/ BYP2 pins are used to bypass the reference of the LT3024 regulator to achieve low noise performance from the regulator. The BYP1/BYP2 pins are clamped internally to +/-0.6V (one VBE) from ground. A small (See Datasheet)", 3 OUT1 (power) "Output. The outputs supply power to the loads. A minimum output capacitor of 1uF is required to prevent oscillations on Output 2; Output 1 requires a minimum of 3.3uF. Larger output capacitors will be required for (See Datasheet)", 4 OUT1 (power) "Output. The outputs supply power to the loads. A minimum output capacitor of 1uF is required to prevent oscillations on Output 2; Output 1 requires a minimum of 3.3uF. Larger output capacitors will be required for (See Datasheet)", 6 OUT2 (power) "Output. The outputs supply power to the loads. A minimum output capacitor of 1uF is required to prevent oscillations on Output 2; Output 1 requires a minimum of 3.3uF. Larger output capacitors will be required for (See Datasheet)", 7 BYP2 "Bypass. The BYP1/ BYP2 pins are used to bypass the reference of the LT3024 regulator to achieve low noise performance from the regulator. The BYP1/BYP2 pins are clamped internally to +/-0.6V (one VBE) from ground. A small (See Datasheet)", 10 ADJ2 (in) "Adjust Pin. These are the input to the error amplifi ers. These pins are internally clamped to +/-7V. They have a bias current of 30nA which fl ows into the pin (see curve of ADJ1/ADJ2 Pin Bias Current vs Temperature in the (See Datasheet)", 11 ~{SHDN2} (in) "Shutdown. The S\H\D\N\1\/S\H\D\N\2\ pins are used to put the corresponding output of the LT3024 regulator into a low power shutdown state. The output will be off when the pin is pulled low. The S\H\D\N\1\/S\H\D\N\2\ pins can (See Datasheet)", 12 IN (power) "Input. Power is supplied to the device through the IN pin. A bypass capacitor is required on this pin if the device is more than six inches away from the main input fi lter capacitor. In general, the output impedance of a (See Datasheet)", 13 IN (power) "Input. Power is supplied to the device through the IN pin. A bypass capacitor is required on this pin if the device is more than six inches away from the main input fi lter capacitor. In general, the output impedance of a (See Datasheet)", 14 ~{SHDN1} (in) "Shutdown. The S\H\D\N\1\/S\H\D\N\2\ pins are used to put the corresponding output of the LT3024 regulator into a low power shutdown state. The output will be off when the pin is pulled low. The S\H\D\N\1\/S\H\D\N\2\ pins can (See Datasheet)", 15 ADJ1 (in) "Adjust Pin. These are the input to the error amplifi ers. These pins are internally clamped to +/-7V. They have a bias current of 30nA which fl ows into the pin (see curve of ADJ1/ADJ2 Pin Bias Current vs Temperature in the (See Datasheet)"
part B pins: 1 GND (power) "Ground. The Exposed Pad must be soldered to PCB ground for optimum thermal performance.", 5 GND (power) "Ground. The Exposed Pad must be soldered to PCB ground for optimum thermal performance.", 8 GND (power) "Ground. The Exposed Pad must be soldered to PCB ground for optimum thermal performance.", 9 GND (power) "Ground. The Exposed Pad must be soldered to PCB ground for optimum thermal performance.", 16 GND (power) "Ground. The Exposed Pad must be soldered to PCB ground for optimum thermal performance.", 17 EP (power) "Ground. The Exposed Pad must be soldered to PCB ground for optimum thermal performance."

## LT3027EDD
designator U?
Dual 100 mA, Low Dropout, Low Noise, Micropower Regulator with Independent Inputs, 1.8 to 20 V Vin, Adjustable Vout, 10-pin SON (DD-10), -40 to 125 degC; Manufacturer: Linear Technology; PartNumber: LT3027EDD; Discrete Pass Element: no; Dropout Voltage(V): 0.3; Iout(mA): 100; Isupply(mA): 0.025; Noise(uV): 20; Number of Outputs: 2; Output Voltage: Adj; PSRR(dB): 65; Shutdown Current(uA): 0.1; Vin Min(V): 1.8; Vout Min(V): 1.22; DatasheetVersion: Rev. A; PackageVersion: Rev. C, 06/2010; PackageReference: DD-10; PackageDescription: 10-Pin Plastic DFN, Body 3 x 3 mm, Pitch 0.5 mm; RoHS: FALSE; Vin Max(V): 20; Vout Max(V): 20; Mounting Technology: Surface Mount; Code_JEDEC: MO-229; ComponentLink1Description: Manufacturer URL; ComponentLink1URL: http://www.linear.com/; ComponentLink2Description: Datasheet; ComponentLink2URL: http://cds.linear.com/docs/en/datasheet/3027fa.pdf; ComponentLink3Description: Package Specification; ComponentLink3URL: http://cds.linear.com/docs/en/packaging/DFN_10_05-08-1699.pdf
footprint LT-DD-10_V (SON, 10-Leads, Body 3x3mm, Pitch 0.5mm, Thermal Pad 2.38x1.65mm)
pins: 1 BYP2 "Bypass. The BYP1/BYP2 pins are used to bypass the reference of the LT3027 regulator to achieve low noise performance from the regulator. The BYP1/BYP2 pins are clamped internally to +/-0.6V (one VBE) from ground. A small (See Datasheet)", 2 ADJ2 (in) "Adjust Pin. These are the inputs to the error amplifiers. These pins are internally clamped to +/-7V. They have a bias current of 30nA which flows into the pin (see curve of ADJ1/ADJ2 Pin Bias Current vs Temperature in the (See Datasheet)", 3 ~{SHDN2} (in) "Shutdown. The S\H\D\N\1\/S\H\D\N\2\ pins are used to put the corresponding channel of the LT3027 regulator into a low power shutdown state. The output will be off when the pin is pulled low. The S\H\D\N\1\/S\H\D\N\2\ pins (See Datasheet)", 4 ADJ1 (in) "Adjust Pin. These are the inputs to the error amplifiers. These pins are internally clamped to +/-7V. They have a bias current of 30nA which flows into the pin (see curve of ADJ1/ADJ2 Pin Bias Current vs Temperature in the (See Datasheet)", 5 BYP1 "Bypass. The BYP1/BYP2 pins are used to bypass the reference of the LT3027 regulator to achieve low noise performance from the regulator. The BYP1/BYP2 pins are clamped internally to +/-0.6V (one VBE) from ground. A small (See Datasheet)", 6 OUT1 (power) "Output. The outputs supply power to the loads. A minimum output capacitor of 1uF is required to prevent oscillations. Larger output capacitors will be required for applications with large transient loads to limit peak (See Datasheet)", 7 ~{SHDN1} (in) "Shutdown. The S\H\D\N\1\/S\H\D\N\2\ pins are used to put the corresponding channel of the LT3027 regulator into a low power shutdown state. The output will be off when the pin is pulled low. The S\H\D\N\1\/S\H\D\N\2\ pins (See Datasheet)", 8 IN1 (power) "Inputs. Power is supplied to the device through the IN pins. A bypass capacitor is required on this pin if the device is more than six inches away from the main input filter capacitor. In general, the output impedance of a (See Datasheet)", 9 IN2 (power) "Inputs. Power is supplied to the device through the IN pins. A bypass capacitor is required on this pin if the device is more than six inches away from the main input filter capacitor. In general, the output impedance of a (See Datasheet)", 10 OUT2 (power) "Output. The outputs supply power to the loads. A minimum output capacitor of 1uF is required to prevent oscillations. Larger output capacitors will be required for applications with large transient loads to limit peak (See Datasheet)", 11 EP (power) "Ground. This pin must be soldered to the PCB and electrically connected to ground."

## LT3027EDD#PBF
designator U?
Dual 100 mA, Low Dropout, Low Noise, Micropower Regulator with Independent Inputs, 1.8 to 20 V Vin, Adjustable Vout, 10-pin SON (DD-10), -40 to 125 degC, Pb-Free; Manufacturer: Linear Technology; PartNumber: LT3027EDD#PBF; Discrete Pass Element: no; Dropout Voltage(V): 0.3; Iout(mA): 100; Isupply(mA): 0.025; Noise(uV): 20; Number of Outputs: 2; Output Voltage: Adj; PSRR(dB): 65; Shutdown Current(uA): 0.1; Vin Min(V): 1.8; Vout Min(V): 1.22; DatasheetVersion: Rev. A; PackageVersion: Rev. C, 06/2010; PackageReference: DD-10; PackageDescription: 10-Pin Plastic DFN, Body 3 x 3 mm, Pitch 0.5 mm; Supplier 1: Digi-Key; Supplier Part Number 1: LT3027EDD#PBF-ND; Supplier 2: Farnell; Supplier Part Number 2: 2295259; Supplier 3: Newark; Supplier Part Number 3: 57M8026; RoHS: TRUE; Vin Max(V): 20; Vout Max(V): 20; Mounting Technology: Surface Mount; Code_JEDEC: MO-229; ComponentLink1Description: Manufacturer URL; ComponentLink1URL: http://www.linear.com/; ComponentLink2Description: Datasheet; ComponentLink2URL: http://cds.linear.com/docs/en/datasheet/3027fa.pdf; ComponentLink3Description: Package Specification; ComponentLink3URL: http://cds.linear.com/docs/en/packaging/DFN_10_05-08-1699.pdf
footprint LT-DD-10_V (SON, 10-Leads, Body 3x3mm, Pitch 0.5mm, Thermal Pad 2.38x1.65mm)
pins: 1 BYP2 "Bypass. The BYP1/BYP2 pins are used to bypass the reference of the LT3027 regulator to achieve low noise performance from the regulator. The BYP1/BYP2 pins are clamped internally to +/-0.6V (one VBE) from ground. A small (See Datasheet)", 2 ADJ2 (in) "Adjust Pin. These are the inputs to the error amplifiers. These pins are internally clamped to +/-7V. They have a bias current of 30nA which flows into the pin (see curve of ADJ1/ADJ2 Pin Bias Current vs Temperature in the (See Datasheet)", 3 ~{SHDN2} (in) "Shutdown. The S\H\D\N\1\/S\H\D\N\2\ pins are used to put the corresponding channel of the LT3027 regulator into a low power shutdown state. The output will be off when the pin is pulled low. The S\H\D\N\1\/S\H\D\N\2\ pins (See Datasheet)", 4 ADJ1 (in) "Adjust Pin. These are the inputs to the error amplifiers. These pins are internally clamped to +/-7V. They have a bias current of 30nA which flows into the pin (see curve of ADJ1/ADJ2 Pin Bias Current vs Temperature in the (See Datasheet)", 5 BYP1 "Bypass. The BYP1/BYP2 pins are used to bypass the reference of the LT3027 regulator to achieve low noise performance from the regulator. The BYP1/BYP2 pins are clamped internally to +/-0.6V (one VBE) from ground. A small (See Datasheet)", 6 OUT1 (power) "Output. The outputs supply power to the loads. A minimum output capacitor of 1uF is required to prevent oscillations. Larger output capacitors will be required for applications with large transient loads to limit peak (See Datasheet)", 7 ~{SHDN1} (in) "Shutdown. The S\H\D\N\1\/S\H\D\N\2\ pins are used to put the corresponding channel of the LT3027 regulator into a low power shutdown state. The output will be off when the pin is pulled low. The S\H\D\N\1\/S\H\D\N\2\ pins (See Datasheet)", 8 IN1 (power) "Inputs. Power is supplied to the device through the IN pins. A bypass capacitor is required on this pin if the device is more than six inches away from the main input filter capacitor. In general, the output impedance of a (See Datasheet)", 9 IN2 (power) "Inputs. Power is supplied to the device through the IN pins. A bypass capacitor is required on this pin if the device is more than six inches away from the main input filter capacitor. In general, the output impedance of a (See Datasheet)", 10 OUT2 (power) "Output. The outputs supply power to the loads. A minimum output capacitor of 1uF is required to prevent oscillations. Larger output capacitors will be required for applications with large transient loads to limit peak (See Datasheet)", 11 EP (power) "Ground. This pin must be soldered to the PCB and electrically connected to ground."

## LT3027EDD#TR
designator U?
Dual 100 mA, Low Dropout, Low Noise, Micropower Regulator with Independent Inputs, 1.8 to 20 V Vin, Adjustable Vout, 10-pin SON (DD-10), -40 to 125 degC, Tape and Reel; Manufacturer: Linear Technology; PartNumber: LT3027EDD#TR; Discrete Pass Element: no; Dropout Voltage(V): 0.3; Iout(mA): 100; Isupply(mA): 0.025; Noise(uV): 20; Number of Outputs: 2; Output Voltage: Adj; PSRR(dB): 65; Shutdown Current(uA): 0.1; Vin Min(V): 1.8; Vout Min(V): 1.22; DatasheetVersion: Rev. A; PackageVersion: Rev. C, 06/2010; PackageReference: DD-10; PackageDescription: 10-Pin Plastic DFN, Body 3 x 3 mm, Pitch 0.5 mm; Packing: Tape and Reel; RoHS: FALSE; Vin Max(V): 20; Vout Max(V): 20; Mounting Technology: Surface Mount; Code_JEDEC: MO-229; ComponentLink1Description: Manufacturer URL; ComponentLink1URL: http://www.linear.com/; ComponentLink2Description: Datasheet; ComponentLink2URL: http://cds.linear.com/docs/en/datasheet/3027fa.pdf; ComponentLink3Description: Package Specification; ComponentLink3URL: http://cds.linear.com/docs/en/packaging/DFN_10_05-08-1699.pdf
footprint LT-DD-10_V (SON, 10-Leads, Body 3x3mm, Pitch 0.5mm, Thermal Pad 2.38x1.65mm)
pins: 1 BYP2 "Bypass. The BYP1/BYP2 pins are used to bypass the reference of the LT3027 regulator to achieve low noise performance from the regulator. The BYP1/BYP2 pins are clamped internally to +/-0.6V (one VBE) from ground. A small (See Datasheet)", 2 ADJ2 (in) "Adjust Pin. These are the inputs to the error amplifiers. These pins are internally clamped to +/-7V. They have a bias current of 30nA which flows into the pin (see curve of ADJ1/ADJ2 Pin Bias Current vs Temperature in the (See Datasheet)", 3 ~{SHDN2} (in) "Shutdown. The S\H\D\N\1\/S\H\D\N\2\ pins are used to put the corresponding channel of the LT3027 regulator into a low power shutdown state. The output will be off when the pin is pulled low. The S\H\D\N\1\/S\H\D\N\2\ pins (See Datasheet)", 4 ADJ1 (in) "Adjust Pin. These are the inputs to the error amplifiers. These pins are internally clamped to +/-7V. They have a bias current of 30nA which flows into the pin (see curve of ADJ1/ADJ2 Pin Bias Current vs Temperature in the (See Datasheet)", 5 BYP1 "Bypass. The BYP1/BYP2 pins are used to bypass the reference of the LT3027 regulator to achieve low noise performance from the regulator. The BYP1/BYP2 pins are clamped internally to +/-0.6V (one VBE) from ground. A small (See Datasheet)", 6 OUT1 (power) "Output. The outputs supply power to the loads. A minimum output capacitor of 1uF is required to prevent oscillations. Larger output capacitors will be required for applications with large transient loads to limit peak (See Datasheet)", 7 ~{SHDN1} (in) "Shutdown. The S\H\D\N\1\/S\H\D\N\2\ pins are used to put the corresponding channel of the LT3027 regulator into a low power shutdown state. The output will be off when the pin is pulled low. The S\H\D\N\1\/S\H\D\N\2\ pins (See Datasheet)", 8 IN1 (power) "Inputs. Power is supplied to the device through the IN pins. A bypass capacitor is required on this pin if the device is more than six inches away from the main input filter capacitor. In general, the output impedance of a (See Datasheet)", 9 IN2 (power) "Inputs. Power is supplied to the device through the IN pins. A bypass capacitor is required on this pin if the device is more than six inches away from the main input filter capacitor. In general, the output impedance of a (See Datasheet)", 10 OUT2 (power) "Output. The outputs supply power to the loads. A minimum output capacitor of 1uF is required to prevent oscillations. Larger output capacitors will be required for applications with large transient loads to limit peak (See Datasheet)", 11 EP (power) "Ground. This pin must be soldered to the PCB and electrically connected to ground."